# Altium schematic symbol library 2STR2160.SchLib: 1 symbol
Pins are listed as number, name and electrical type; pins without a type are passive.

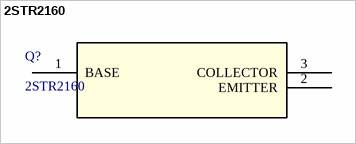
[diagram p0: symbol 2STR2160]

## 2STR2160
designator Q?
Low voltage fast-switching PNP power transistor; Manufacturer_Name: STMicroelectronics; Copyright: Copyright (C) 2025 Ultra Librarian. All rights reserved.; Manufacturer_Part_Number: 2STR2160; Datasheet: https://www.st.com/resource/en/datasheet/2str2160.pdf; RefDes: RefDes; Type: Type
footprint SOT23_3P04X1P75X1P9_STM
pins: 1 BASE, 2 EMITTER, 3 COLLECTOR